# EAGLE library part M80-54020 (library BrownSpaceEngineering)
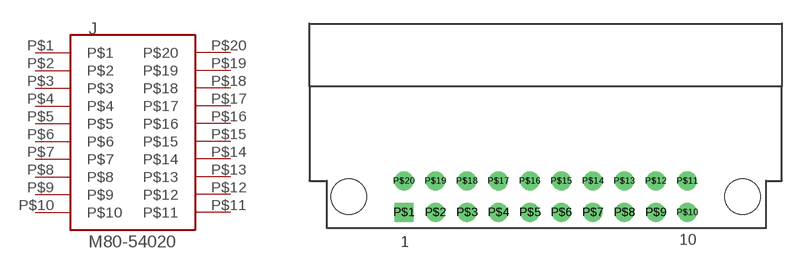
[diagram p20: symbol with the pads of M80-54020; footprint M80-54020]

Designator prefix J

## M80-54020  [M80-54020]
P$1  P$1
P$2  P$2
P$3  P$3
P$4  P$4
P$5  P$5
P$6  P$6
P$7  P$7
P$8  P$8
P$9  P$9
P$10  P$10
P$11  P$11
P$12  P$12
P$13  P$13
P$14  P$14
P$15  P$15
P$16  P$16
P$17  P$17
P$18  P$18
P$19  P$19
P$20  P$20

## Footprint M80-54020 (pad centres in mm)
drill 0.7 square: P$1 -9,-1
drill 0.7: P$2 -7,-1; P$3 -5,-1; P$4 -3,-1; P$5 -1,-1; P$6 1,-1; P$7 3,-1; P$8 5,-1; P$9 7,-1; P$10 9,-1; P$11 9,1; P$12 7,1; P$13 5,1; P$14 3,1; P$15 1,1; P$16 -1,1; P$17 -3,1; P$18 -5,1; P$19 -7,1; P$20 -9,1
hole 2.25 at -12.5,0
hole 2.25 at 12.5,0